# Altium footprint library sm_connector.PcbLib: 22 footprints (part 1 of 2)
Each footprint in its own frame and in the unit in brackets; x right, y up, seen from the top. Pads: shape width x height; smd on the part's side, far side on the other; paste and mask are expansions set on the pad; w line width, h text height; cw(c..) or ccw(c..) is an arc to the next point about the centre after c.
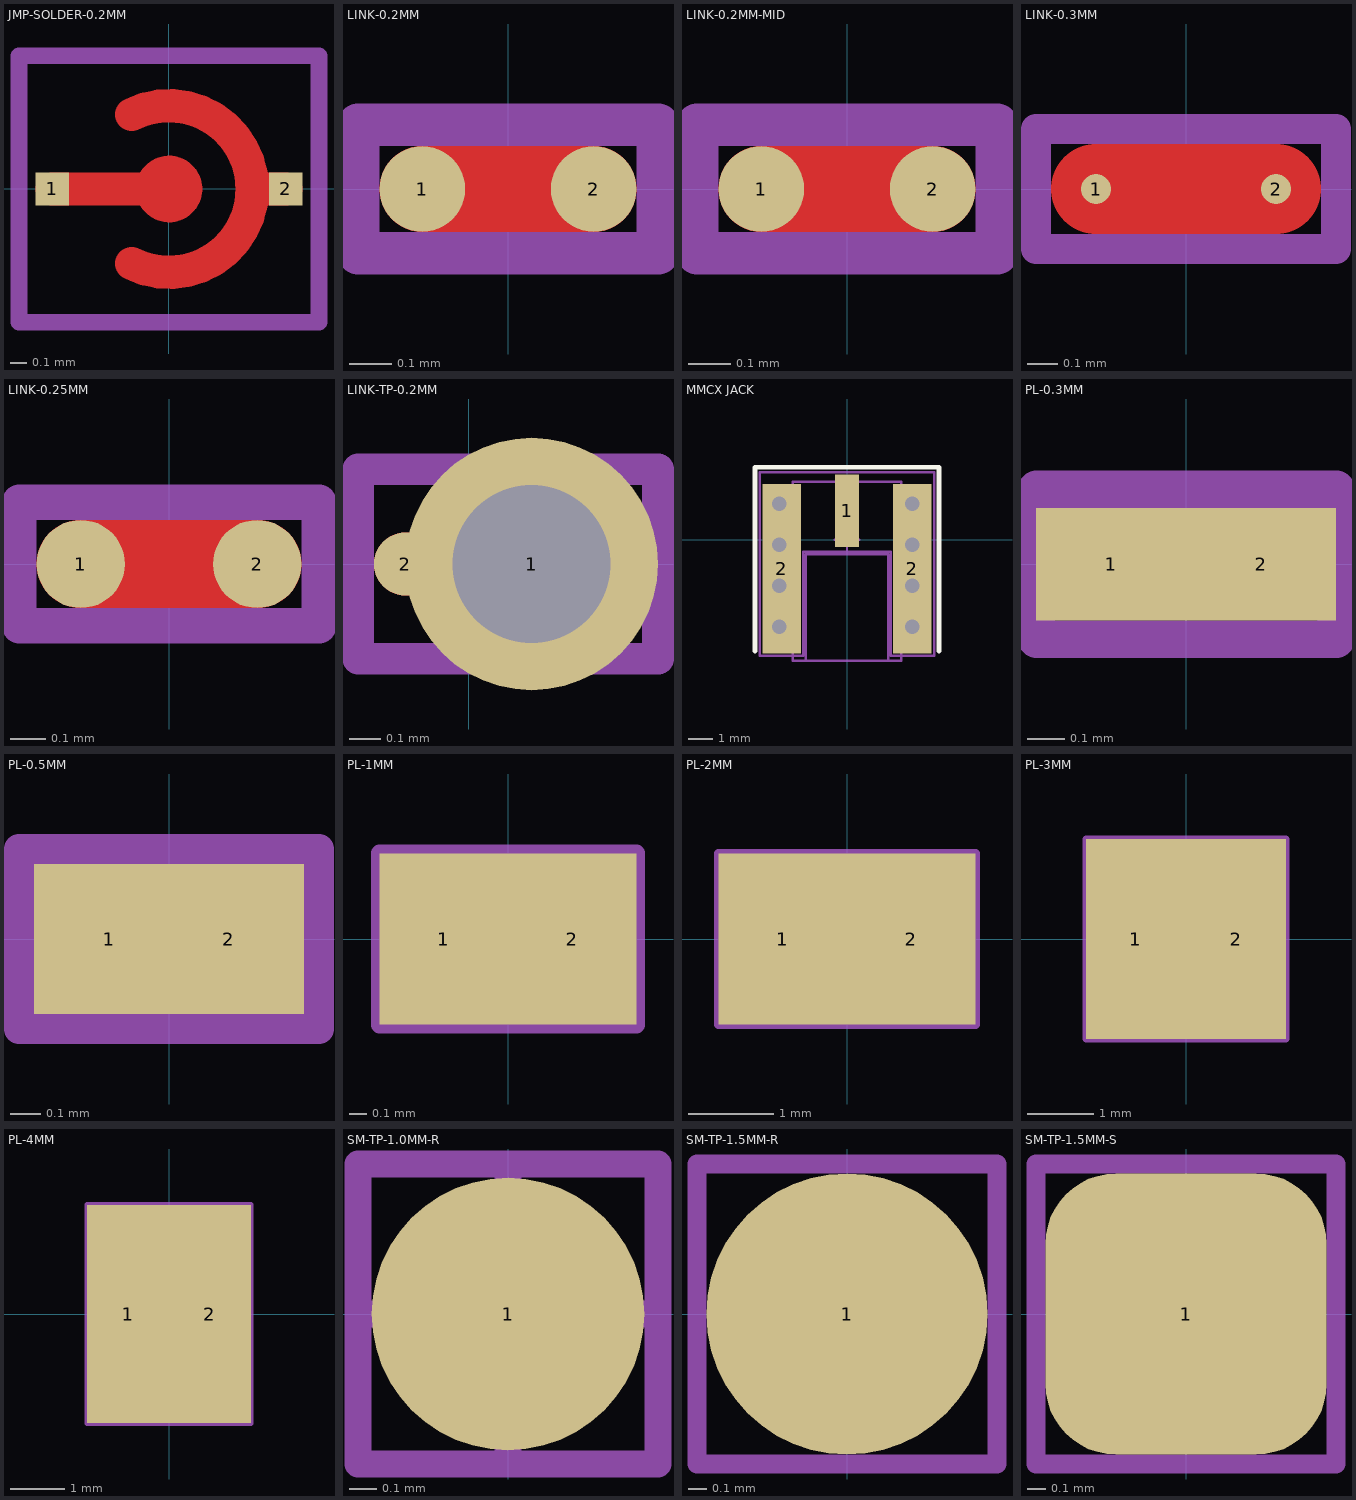
[diagram p0: the footprints below, top view; thin cyan lines are the x and y axes]

## JMP-SOLDER-0.2MM [mm] "Jumper solder 0.2mm"
pads (2):
  rect 0.2x0.2 smd paste+0 mask+0: 1(-0.7,0) 2(0.7,0)
Top Layer:
  circle w0.2: c0,0 r0.1
  lines w0.2: -0.7,0 -0.1,0 ; -0.224,-0.447 ccw(c0,0) -0.224,0.447 ; 0.5,0 0.7,0
Top Solder:
  circle w0.7: c0,0 r0.35
Mechanical 15:
  lines w0.1: -0.9,-0.8 -0.9,0.8 0.9,0.8 0.9,-0.8 -0.9,-0.8

## LINK-0.2MM [mm] "Link 0.2mm"
pads (2):
  round 0.2 smd paste+0 mask+0: 1(-0.2,0)
  round 0.2 smd mask+0: 2(0.2,0)
Top Layer:
  lines w0.2: -0.2,0 0.2,0
Mechanical 15:
  lines w0.1: -0.35,-0.15 0.35,-0.15 0.35,0.15 -0.35,0.15 -0.35,-0.15

## LINK-0.2MM-MID [mm] "Link 0.2mm"
pads (2):
  round 0.2 smd paste+0 mask+0: 1(-0.2,0)
  round 0.2 smd mask+0: 2(0.2,0)
Top Layer:
  lines w0.2: -0.2,0 0.2,0
Mechanical 15:
  lines w0.1: -0.35,-0.15 0.35,-0.15 0.35,0.15 -0.35,0.15 -0.35,-0.15

## LINK-0.3MM [mm] "Link 0.3mm"
pads (2):
  round 0.1 smd paste+0 mask+0: 1(-0.3,0)
  round 0.1 smd mask+0: 2(0.3,0)
Top Layer:
  lines w0.3: -0.3,0 0.3,0
Mechanical 15:
  lines w0.1: -0.5,-0.2 -0.5,0.2 0.5,0.2 0.5,-0.2 -0.5,-0.2

## LINK-0.25MM [mm] "Link 0.25mm"
pads (2):
  round 0.25 smd paste+0 mask+0: 1(-0.25,0)
  round 0.25 smd mask+0: 2(0.25,0)
Top Layer:
  lines w0.25: -0.25,0 0.25,0
Mechanical 15:
  lines w0.1: -0.425,-0.175 0.425,-0.175 0.425,0.175 -0.425,0.175 -0.425,-0.175

## LINK-TP-0.2MM [mm] "Link Test Point Combo 0.2mm"
pads (2):
  round 0.8 / inner round 0.7 / far side round 0.8 hole 0.5 mask+0: 1(0.2,0)
  round 0.2 smd paste+0 mask+0: 2(-0.2,0)
Top Layer:
  lines w0.2: -0.2,0 0.2,0
Mechanical 15:
  lines w0.1: -0.35,-0.3 -0.35,0.3 0.6,0.3 0.6,-0.3 -0.35,-0.3

## MMCX JACK [mm]
pads (3):
  rect 1x3 smd: 1(0,1.2)
  rect 1.6x7 all layers, no hole: 2(-2.7,-1.2) 2(2.7,-1.2)
via 2.7,1.5 diameter 0.813 hole 0.6
via 2.7,-0.2 diameter 0.813 hole 0.6
via 2.7,-3.6 diameter 0.813 hole 0.6
via 2.7,-1.9 diameter 0.813 hole 0.6
via -2.8,-1.9 diameter 0.813 hole 0.6
via -2.8,-3.6 diameter 0.813 hole 0.6
via -2.8,-0.2 diameter 0.813 hole 0.6
via -2.8,1.5 diameter 0.813 hole 0.6
Top Overlay:
  lines w0.2: -3.8,-4.6 -3.8,3 3.8,3 3.8,-4.6
Mechanical 13:
  lines w0.1: -1.7,-5 -1.7,-0.6 1.7,-0.6 1.7,-5 ; -0.5,0 0.5,0 ; 0,-0.5 0,0.5 ; -2.25,-5 2.25,-5 2.25,2.4 -2.25,2.4 -2.25,-5
Mechanical 15:
  lines w0.1: -3.6,-4.8 -1.8,-4.8 -1.8,-0.5 1.8,-0.5 1.8,-4.8 3.6,-4.8 3.6,2.8 -3.6,2.8 -3.6,-4.8
  text ".Designator" at -2.3,-2.725 h0.5

## PL-0.3MM [mm] "Plane Link 0.3mm"
pads (2):
  rect 0.4x0.3 smd paste+0: 1(-0.2,0)
  rect 0.4x0.3 smd: 2(0.2,0)
Mechanical 15:
  lines w0.1: -0.4,-0.2 -0.4,0.2 0.4,0.2 0.4,-0.2 -0.4,-0.2

## PL-0.5MM [mm] "Plane Link 0.5mm"
pads (2):
  rect 0.5x0.5 smd paste+0: 1(-0.2,0)
  rect 0.5x0.5 smd: 2(0.2,0)
Mechanical 15:
  lines w0.1: -0.5,-0.3 -0.5,0.3 0.5,0.3 0.5,-0.3 -0.5,-0.3

## PL-1MM [mm] "Plane Link 1mm"
pads (2):
  rect 0.75x1 smd paste+0: 1(-0.375,0)
  rect 0.75x1 smd: 2(0.375,0)
Mechanical 15:
  lines w0.1: -0.75,-0.5 -0.75,0.5 0.75,0.5 0.75,-0.5 -0.75,-0.5

## PL-2MM [mm] "Plane Link 2mm"
pads (2):
  rect 1.5x2 smd mask+0.102: 1(-0.75,0) 2(0.75,0)
Mechanical 15:
  lines w0.1: -1.5,-1 1.5,-1 1.5,1 -1.5,1 -1.5,-1

## PL-3MM [mm] "Plane Link 3mm"
pads (2):
  rect 1.5x3 smd mask+0.102: 1(-0.75,0) 2(0.75,0)
Mechanical 15:
  lines w0.1: -1.5,-1.5 1.5,-1.5 1.5,1.5 -1.5,1.5 -1.5,-1.5

## PL-4MM [mm] "Plane Link 4mm"
pads (2):
  rect 1.5x4 smd mask+0.102: 1(-0.75,0) 2(0.75,0)
Mechanical 15:
  lines w0.1: -1.5,-2 1.5,-2 1.5,2 -1.5,2 -1.5,-2

## SM-TP-1.0MM-R [mm] "SM Test Point - 1.0mm Round"
pads (1):
  round 1 smd: 1(0,0)
Mechanical 13:
  lines w0.1: -0.5,0 0.5,0 ; 0,-0.5 0,0.5
Mechanical 15:
  lines w0.1: -0.55,-0.55 -0.55,0.55 0.55,0.55 0.55,-0.55 -0.55,-0.55
  text ".Designator" at -1.665,-2.725 h0.5

## SM-TP-1.5MM-R [mm] "SM Test Point - 1.5mm Round"
pads (1):
  round 1.5 smd: 1(0,0)
Mechanical 13:
  lines w0.1: -0.5,0 0.5,0 ; 0,-0.5 0,0.5
Mechanical 15:
  lines w0.1: -0.8,-0.8 -0.8,0.8 0.8,0.8 0.8,-0.8 -0.8,-0.8
  text ".Designator" at -1.665,-2.725 h0.5

## SM-TP-1.5MM-S [mm] "SM Test Point - 1.5mm Square"
pads (1):
  rrect50% 1.5x1.5 smd: 1(0,0)
Mechanical 13:
  lines w0.1: -0.5,0 0.5,0 ; 0,-0.5 0,0.5
Mechanical 15:
  lines w0.1: -0.8,-0.8 -0.8,0.8 0.8,0.8 0.8,-0.8 -0.8,-0.8
  text ".Designator" at -1.665,-2.725 h0.5